# EAGLE library part MOTORSCHUTZSCHALTER_3-POL_THERM_AUSLOESUNG_ALTERNATIV (library e-motorschutzschalter)
Motorschutzschalter 3-pol. mit thermischer Auslösung, allgemein (alternativ)
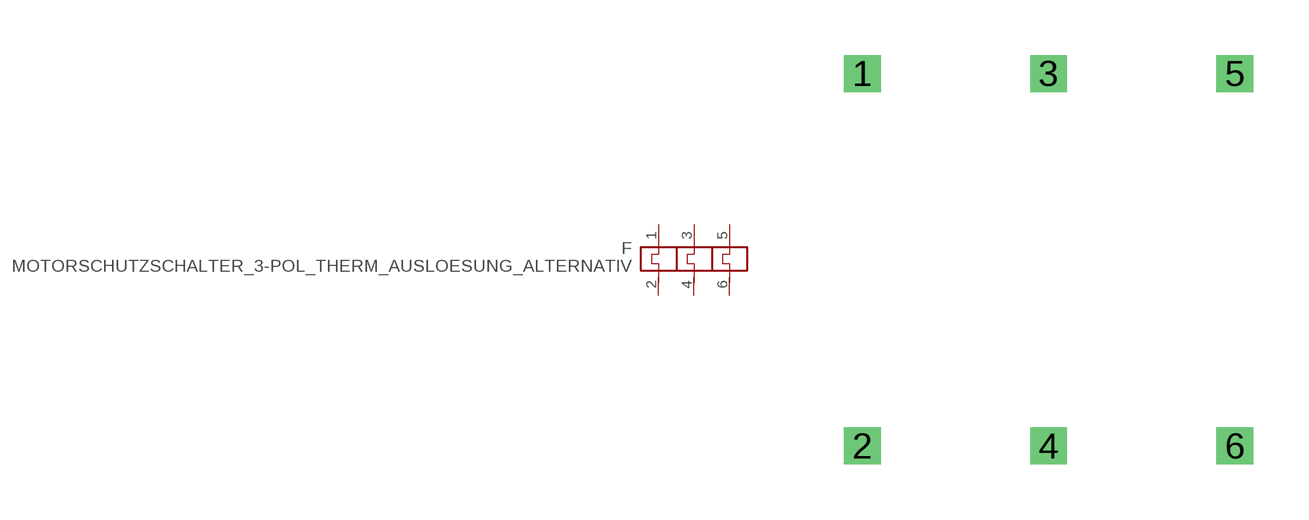
[diagram p1: symbol with the pads of MOTORSCHUTZSCHALTER_3-POL_THERM_AUSLOESUNG_ALTERNATIV; footprint MOTORSCHUTZSCHALTER_3-POL_THERM_AUSLOESUNG_ALTERNATIV]

Designator prefix F

## MOTORSCHUTZSCHALTER_3-POL_THERM_AUSLOESUNG_ALTERNATIV  [MOTORSCHUTZSCHALTER_3-POL_THERM_AUSLOESUNG_ALTERNATIV]
1  1  pas
2  2  pas
3  3  pas
4  4  pas
5  5  pas
6  6  pas

## Footprint MOTORSCHUTZSCHALTER_3-POL_THERM_AUSLOESUNG_ALTERNATIV (pad centres in mm)
Dummy
drill 0.5 pad 1 square: 1 -5.08,-2.54; 2 -5.08,-12.7; 3 0,-2.54; 4 0,-12.7; 5 5.08,-2.54; 6 5.08,-12.7